# EAGLE library part CC3200 (library cc3200mod)
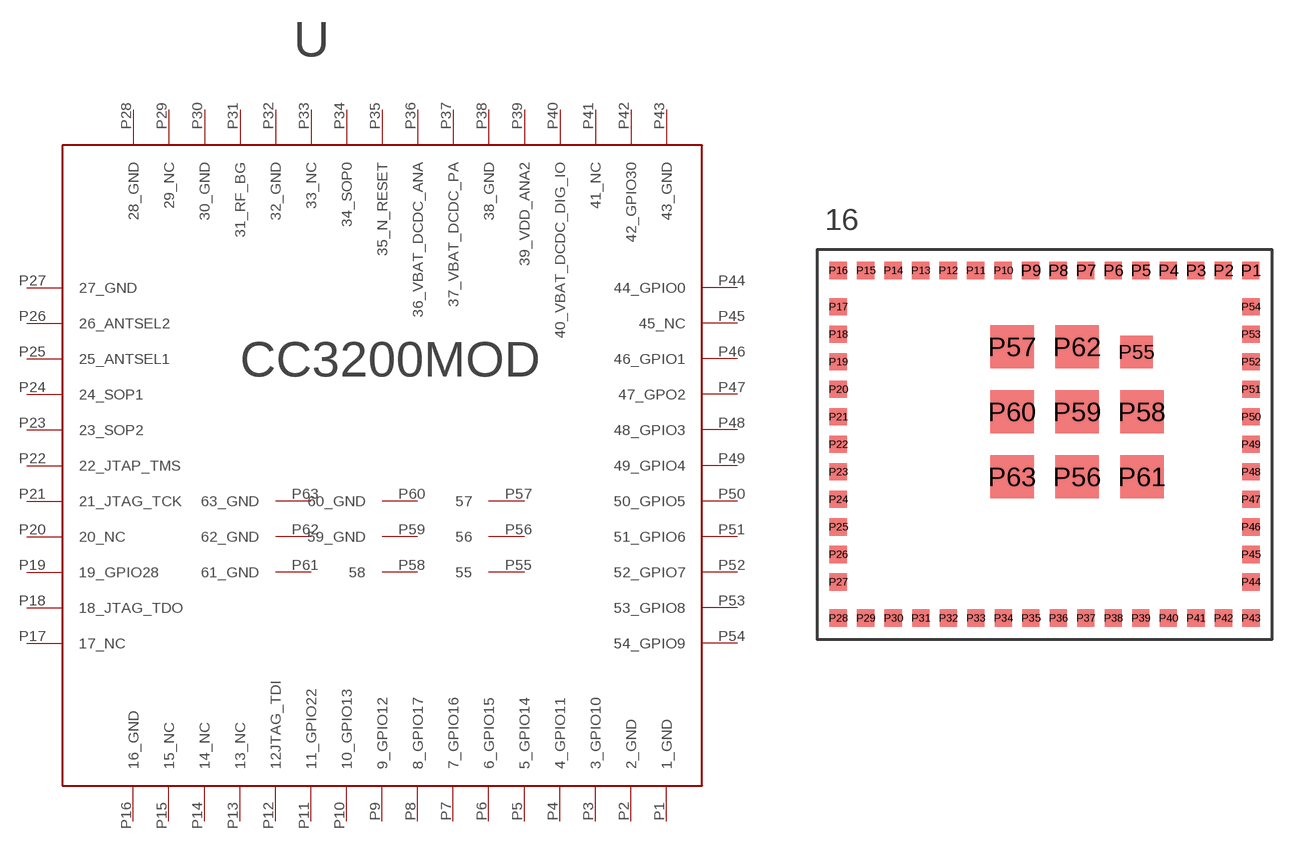
[diagram p0: symbol with the pads of CC3200MOD; footprint CC3200MOD]

Designator prefix -

## CC3200  [CC3200MOD]
P1  1_GND
P2  2_GND
P3  3_GPIO10
P4  4_GPIO11
P5  5_GPIO14
P6  6_GPIO15
P7  7_GPIO16
P8  8_GPIO17
P9  9_GPIO12
P10  10_GPIO13
P11  11_GPIO22
P12  12JTAG_TDI
P13  13_NC
P14  14_NC
P15  15_NC
P16  16_GND
P17  17_NC
P18  18_JTAG_TDO
P19  19_GPIO28
P20  20_NC
P21  21_JTAG_TCK
P22  22_JTAP_TMS
P23  23_SOP2
P24  24_SOP1
P25  25_ANTSEL1
P26  26_ANTSEL2
P27  27_GND
P28  28_GND
P29  29_NC
P30  30_GND
P31  31_RF_BG
P32  32_GND
P33  33_NC
P34  34_SOP0
P35  35_N_RESET
P36  36_VBAT_DCDC_ANA
P37  37_VBAT_DCDC_PA
P38  38_GND
P39  39_VDD_ANA2
P40  40_VBAT_DCDC_DIG_IO
P41  41_NC
P42  42_GPIO30
P43  43_GND
P44  44_GPIO0
P45  45_NC
P46  46_GPIO1
P47  47_GPO2
P48  48_GPIO3
P49  49_GPIO4
P50  50_GPIO5
P51  51_GPIO6
P52  52_GPIO7
P53  53_GPIO8
P54  54_GPIO9
P55  55
P56  56
P57  57
P58  58
P59  59_GND
P60  60_GND
P61  61_GND
P62  62_GND
P63  63_GND

## Footprint CC3200MOD (pad centres in mm)
smd 0.8 x 0.8: P1 9.52,8.025; P2 8.25,8.025; P3 6.98,8.025; P4 5.71,8.025; P5 4.44,8.025; P6 3.17,8.025; P7 1.9,8.025; P8 0.63,8.025; P9 -0.64,8.025; P10 -1.91,8.025; P11 -3.18,8.025; P12 -4.45,8.025; P13 -5.72,8.025; P14 -6.99,8.025; P15 -8.26,8.025; P16 -9.53,8.025; P17 -9.525,6.35; P18 -9.525,5.08; P19 -9.525,3.81; P20 -9.525,2.54; P21 -9.525,1.27; P22 -9.525,0; P23 -9.525,-1.27; P24 -9.525,-2.54; P25 -9.525,-3.81; P26 -9.525,-5.08; P27 -9.525,-6.35; P28 -9.525,-8.02; P29 -8.255,-8.02; P30 -6.985,-8.02; P31 -5.715,-8.02; P32 -4.445,-8.02; P33 -3.175,-8.02; P34 -1.905,-8.02; P35 -0.635,-8.02; P36 0.635,-8.02; P37 1.905,-8.02; P38 3.175,-8.02; P39 4.445,-8.02; P40 5.715,-8.02; P41 6.985,-8.02; P42 8.255,-8.02; P43 9.525,-8.02; P44 9.525,-6.35; P45 9.525,-5.08; P46 9.525,-3.81; P47 9.525,-2.54; P48 9.525,-1.27; P49 9.525,0; P50 9.525,1.27; P51 9.525,2.54; P52 9.525,3.81; P53 9.525,5.08; P54 9.525,6.35
smd 1.5 x 1.5: P55 4.25,4.25
smd 2 x 2: P56 1.5,-1.5; P57 -1.5,4.5; P58 4.5,1.5; P59 1.5,1.5; P60 -1.5,1.5; P61 4.5,-1.5; P62 1.5,4.5; P63 -1.5,-1.5